# Altium footprint library TSNP-9-3.PcbLib: 1 footprints
Each footprint in its own frame and in the unit in brackets; x right, y up, seen from the top. Pads: shape width x height; smd on the part's side, far side on the other; paste and mask are expansions set on the pad; w line width, h text height; cw(c..) or ccw(c..) is an arc to the next point about the centre after c.
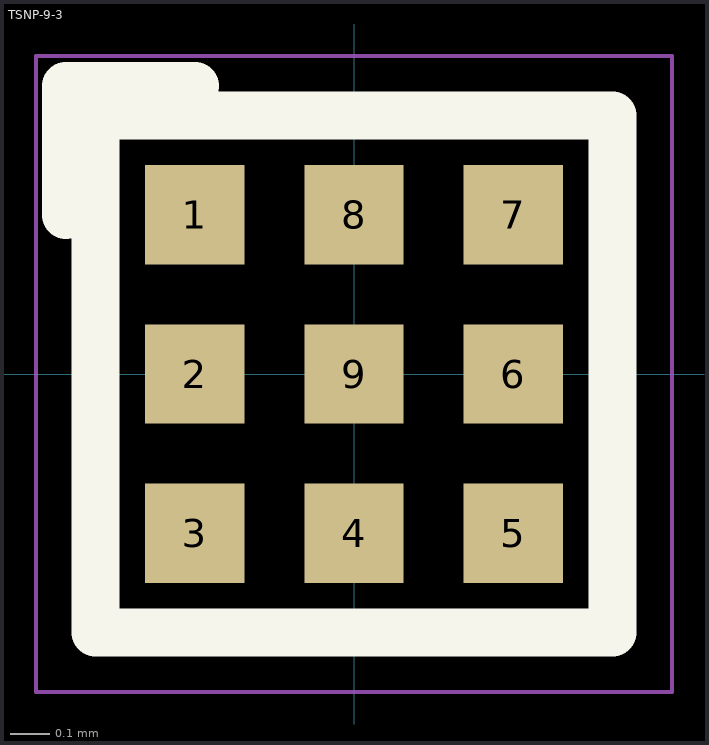
[diagram p0: the footprint, top view; thin cyan lines are the x and y axes]

## TSNP-9-3 [mm] "1.1x1.1x0.375"
pads (9):
  rect 0.25x0.25 smd mask+0.038: 1(-0.4,0.4) 2(-0.4,0) 3(-0.4,-0.4) 4(0,-0.4) 5(0.4,-0.4) 6(0.4,0) 7(0.4,0.4) 8(0,0.4) 9(0,0)
Top Overlay:
  lines w0.12: -0.725,0.4 -0.725,0.725 -0.4,0.725 ; -0.65,-0.65 0.65,-0.65 0.65,0.65 -0.65,0.65 -0.65,-0.65
Mechanical 15:
  lines w0.01: -0.8,-0.8 0.8,-0.8 0.8,0.8 -0.8,0.8 -0.8,-0.8
3D body: height 0.4, standoff 0.02, extent -0.6,-0.6 0.6,0.6
3D body: height 0.02, standoff 0, extent 0.3,0.3 0.5,0.5
3D body: height 0.02, standoff 0, extent 0.3,-0.5 0.5,-0.3
3D body: height 0.02, standoff 0, extent -0.5,0.3 -0.3,0.5
3D body: height 0.41, standoff 0.4, extent -0.5,0.3 -0.3,0.5
3D body: height 0.02, standoff 0, extent -0.5,-0.5 -0.3,-0.3
3D body: height 0.02, standoff 0, extent 0.3,-0.1 0.5,0.1
3D body: height 0.02, standoff 0, extent -0.5,-0.1 -0.3,0.1
3D body: height 0.02, standoff 0, extent -0.1,0.3 0.1,0.5
3D body: height 0.02, standoff 0, extent -0.1,-0.5 0.1,-0.3
3D body: height 0.02, standoff 0, extent -0.1,-0.1 0.1,0.1